# Altium footprint library logo.PCBLIB: 51 footprints (part 3 of 4)
Each footprint in its own frame and in the unit in brackets; x right, y up, seen from the top. Pads: shape width x height; smd on the part's side, far side on the other; paste and mask are expansions set on the pad; w line width, h text height; cw(c..) or ccw(c..) is an arc to the next point about the centre after c.
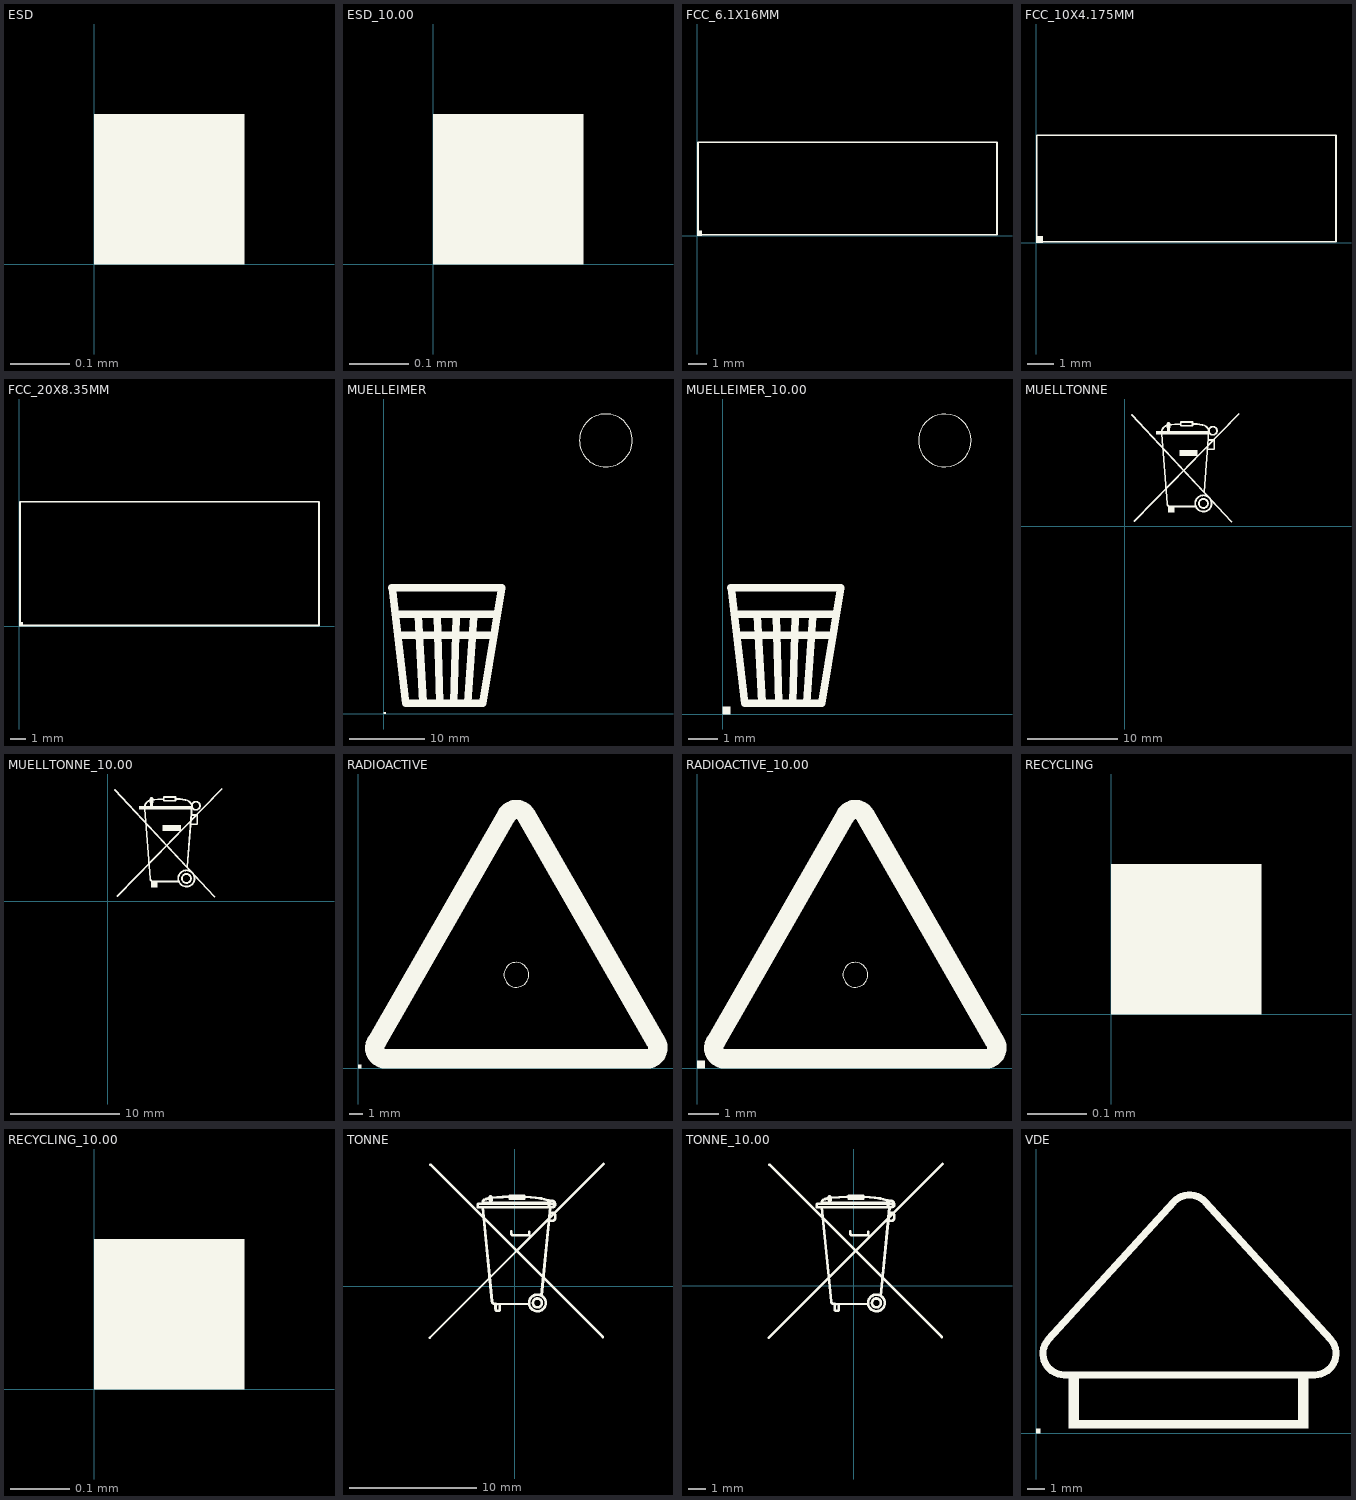
[diagram p2: the footprints below, top view; thin cyan lines are the x and y axes]

## ESD [mm]
Top Overlay:
  region: 0,0 0.254,0 0.254,0.254 0,0.254
  region: 0,0 0.254,0 0.254,0.254 0,0.254
  region: 0,0 0.254,0 0.254,0.254 0,0.254
  region: 0,0 0.254,0 0.254,0.254 0,0.254

## ESD_10.00 [mm]
Top Overlay:
  region: 0,0 0.254,0 0.254,0.254 0,0.254
  region: 0,0 0.254,0 0.254,0.254 0,0.254
  region: 0,0 0.254,0 0.254,0.254 0,0.254
  region: 0,0 0.254,0 0.254,0.254 0,0.254

## FCC_6.1X16MM [mm]
Top Overlay:
  region: 0,0 0.254,0 0.254,0.254 0,0.254
  region: 0,0 0.254,0 0.254,0.254 0,0.254
  region: 0,0 0.254,0 0.254,0.254 0,0.254
  lines w0.09: 0.052,0.045 15.955,0.045 15.955,4.959 0.052,4.959 0.052,0.045

## FCC_10X4.175MM [mm]
Top Overlay:
  region: 0,0 0.254,0 0.254,0.254 0,0.254
  region: 0,0 0.254,0 0.254,0.254 0,0.254
  region: 0,0 0.254,0 0.254,0.254 0,0.254
  lines w0.06: 0.035,0.03 11.558,0.03 11.558,4.139 0.035,4.139 0.035,0.03

## FCC_20X8.35MM [mm]
Top Overlay:
  region: 0,0 0.254,0 0.254,0.254 0,0.254
  region: 0,0 0.254,0 0.254,0.254 0,0.254
  region: 0,0 0.254,0 0.254,0.254 0,0.254
  lines w0.12: 0.07,0.06 19.94,0.06 19.94,8.278 0.07,8.278 0.07,0.06

## MUELLEIMER [mm]
Top Overlay:
  circle w0: c29.4,36.2 r3.5
  region: 0,0 0.254,0 0.254,0.254 0,0.254
  region: 0,0 0.254,0 0.254,0.254 0,0.254
  region: 0,0 0.254,0 0.254,0.254 0,0.254
  region: 0,0 0.254,0 0.254,0.254 0,0.254
  region: 0,0 0.254,0 0.254,0.254 0,0.254
  region: 0,0 0.254,0 0.254,0.254 0,0.254
  region: 0,0 0.254,0 0.254,0.254 0,0.254
  region: 0,0 0.254,0 0.254,0.254 0,0.254
  region: 0,0 0.254,0 0.254,0.254 0,0.254
  lines w1: 1.9,13.2 14.6,13.2 ; 2.2,10.4 14.2,10.4 ; 4.6,13 5.2,1.6 ; 7.1,13 7.4,1.5 ; 9.3,1.5 9.6,12.9 ; 11.1,1.5 11.9,12.9 ; 1.1,16.7 2.9,1.4 13.1,1.4 15.6,16.7 1.1,16.7

## MUELLEIMER_10.00 [mm]
Top Overlay:
  circle w0: c7.684,9.461 r0.915
  region: 0,0 0.254,0 0.254,0.254 0,0.254
  region: 0,0 0.254,0 0.254,0.254 0,0.254
  region: 0,0 0.254,0 0.254,0.254 0,0.254
  region: 0,0 0.254,0 0.254,0.254 0,0.254
  region: 0,0 0.254,0 0.254,0.254 0,0.254
  region: 0,0 0.254,0 0.254,0.254 0,0.254
  region: 0,0 0.254,0 0.254,0.254 0,0.254
  region: 0,0 0.254,0 0.254,0.254 0,0.254
  region: 0,0 0.254,0 0.254,0.254 0,0.254
  lines w0.261: 0.497,3.45 3.816,3.45 ; 0.575,2.718 3.711,2.718 ; 1.202,3.398 1.359,0.418 ; 1.856,3.398 1.934,0.392 ; 2.431,0.392 2.509,3.372 ; 2.901,0.392 3.11,3.372 ; 0.288,4.364 0.758,0.366 3.424,0.366 4.077,4.364 0.288,4.364

## MUELLTONNE [mm]
Top Overlay:
  circle w0.2: c8.7,2.525 r0.901
  circle w0.2: c9.75,10.55 r0.45
  circle w0.2: c8.7,2.525 r0.5
  rectangle: 3.45,10.125 9.325,10.55
  rectangle: 6.05,7.75 8.075,8.45
  rectangle: 4.8,1.525 5.5,2.2
  lines w0.2: 0.8,12.3 11.8,0.5 ; 1.1,0.6 12.6,12.4 ; 7.6,11.3 7.7,11.3 cw(c7.7,7.2) 8.6,11.2 cw(c8.379,10.219) 9.2,10.8 cw(c8.755,10.485) 9.3,10.5 8.8,3.8 ; 7.7,2.2 5,2.2 cw(c5,2.5) 4.7,2.5 4.1,10.2 4.1,10.4 cw(c4.85,10.4) 4.4,11 cw(c5.021,10.172) 4.9,11.2 cw(c6.778,-4.703) 6.2,11.3 ; 9.275,8.5 9.9,8.5 9.9,9.525 9.325,9.525 ; 6.2,11.3 6.2,11.5 7.5,11.5 7.5,11.1 6.2,11.1 6.2,11.3 ; 4.75,11.3 4.8,10.4 4.9,10.4 4.95,11.3 ccw(c4.85,11.311) 4.75,11.3

## MUELLTONNE_10.00 [mm]
Top Overlay:
  circle w0.166: c7.236,2.1 r0.75
  circle w0.166: c8.11,8.775 r0.374
  circle w0.166: c7.236,2.1 r0.416
  rectangle: 2.87,8.422 7.756,8.775
  rectangle: 5.032,6.446 6.717,7.028
  rectangle: 3.993,1.268 4.575,1.83
  lines w0.166: 0.665,10.231 9.815,0.416 ; 0.915,0.499 10.48,10.314 ; 6.322,9.399 6.405,9.399 cw(c6.405,5.988) 7.153,9.316 cw(c6.97,8.5) 7.653,8.983 cw(c7.283,8.722) 7.736,8.734 7.32,3.161 ; 6.405,1.83 4.159,1.83 cw(c4.159,2.08) 3.909,2.079 3.41,8.484 3.41,8.65 cw(c4.034,8.65) 3.66,9.15 cw(c4.177,8.461) 4.076,9.316 cw(c5.636,-3.912) 5.157,9.399 ; 7.715,7.07 8.235,7.07 8.235,7.923 7.756,7.923 ; 5.157,9.399 5.157,9.565 6.238,9.565 6.238,9.233 5.157,9.233 5.157,9.399 ; 3.951,9.399 3.993,8.65 4.076,8.65 4.117,9.399 ccw(c4.034,9.408) 3.951,9.399

## RADIOACTIVE [mm]
Top Overlay:
  circle w0: c11.5,6.8 r0.9
  region: 0,0 0.254,0 0.254,0.254 0,0.254
  region: 0,0 0.254,0 0.254,0.254 0,0.254
  region: 0,0 0.254,0 0.254,0.254 0,0.254
  lines w1.4: 1.4,2 ccw(c2,1.488) 2,0.7 21,0.7 ccw(c21,1.488) 21.6,2 12.2,18.4 ccw(c11.5,17.999) 10.8,18.4 1.4,2

## RADIOACTIVE_10.00 [mm]
Top Overlay:
  circle w0: c5.226,3.09 r0.409
  region: 0,0 0.254,0 0.254,0.254 0,0.254
  region: 0,0 0.254,0 0.254,0.254 0,0.254
  region: 0,0 0.254,0 0.254,0.254 0,0.254
  lines w0.636: 0.636,0.909 ccw(c0.909,0.676) 0.909,0.318 9.543,0.318 ccw(c9.543,0.676) 9.815,0.909 5.544,8.361 ccw(c5.226,8.179) 4.908,8.361 0.636,0.909

## RECYCLING [mm]
Top Overlay:
  region: 0,0 0.254,0 0.254,0.254 0,0.254
  region: 0,0 0.254,0 0.254,0.254 0,0.254
  region: 0,0 0.254,0 0.254,0.254 0,0.254
  region: 0,0 0.254,0 0.254,0.254 0,0.254
  region: 0,0 0.254,0 0.254,0.254 0,0.254
  region: 0,0 0.254,0 0.254,0.254 0,0.254

## RECYCLING_10.00 [mm]
Top Overlay:
  region: 0,0 0.254,0 0.254,0.254 0,0.254
  region: 0,0 0.254,0 0.254,0.254 0,0.254
  region: 0,0 0.254,0 0.254,0.254 0,0.254
  region: 0,0 0.254,0 0.254,0.254 0,0.254
  region: 0,0 0.254,0 0.254,0.254 0,0.254
  region: 0,0 0.254,0 0.254,0.254 0,0.254

## TONNE [mm]
Top Overlay:
  circle w0.2: c1.775,-1.325 r0.65
  circle w0.2: c1.775,-1.325 r0.35
  circle w0.2: c2.9,6.425 r0.25
  lines w0.2: -6.65,-4.05 6.95,9.55 ; -6.6,9.5 6.9,-4 ; -2.5,6.15 -1.775,-1.2 ccw(c-1.553,-1.178) -1.575,-1.4 cw(c-1.686,-2.535) -1.425,-1.425 1.1,-1.4 ; -2.5,6.5 cw(c-2.281,6.547) -2.375,6.75 cw(c-1.777,5.458) -2.075,6.85 cw(c-1.376,3.566) -1.775,6.9 cw(c-0.523,-3.479) -0.525,6.975 -0.4,6.975 ; -2.475,6.5 2.7,6.5 ; -1.925,6.55 -1.95,6.8 cw(c-1.201,6.875) -1.95,6.95 cw(c-1.887,6.944) -1.825,6.95 cw(c-3.685,6.762) -1.825,6.575 ; -1.5,-1.475 -1.5,-1.8 ccw(c-1.35,-1.8) -1.35,-1.95 -1.3,-1.95 ccw(c-1.3,-1.825) -1.175,-1.825 -1.175,-1.475 ; -0.275,4.275 -0.275,4.2 -0.275,4.125 ccw(c-0.125,4.125) -0.125,3.975 1.05,3.975 ccw(c1.05,4.075) 1.15,4.075 1.15,4.25 ; 0.775,6.975 1.25,6.95 cw(c0.93,0.847) 2.075,6.85 cw(c1.214,2.351) 2.575,6.725 cw(c2.421,6.23) 2.725,6.65 cw(c2.646,6.54) 2.775,6.5 ; 2.1,-0.75 2.8,6.15 ; 2.75,5.1 2.925,5.1 ccw(c2.925,5.35) 3.175,5.35 3.175,5.5 ccw(c2.945,5.5) 2.9,5.725 cw(c2.85,5.972) 2.8,5.725 ; -2.8,6.425 -2.775,6.425 ; -2.8,6.425 -2.825,6.425 ccw(c-2.825,6.35) -2.9,6.35 -2.9,6.3 -2.9,6.225 ccw(c-2.85,6.225) -2.85,6.175 -2.45,6.175 -0.3,6.175 1.75,6.175 2.95,6.175 ccw(c2.95,6.4) 3.175,6.4 3.175,6.425 -2.775,6.425 ; -2.8,6.425 -2.775,6.425 ; -0.4,6.85 0.75,6.85 0.75,7.05 -0.4,7.05 -0.4,6.85

## TONNE_10.00 [mm]
Top Overlay:
  circle w0.145: c1.285,-0.959 r0.47
  circle w0.145: c1.285,-0.959 r0.253
  circle w0.145: c2.099,4.651 r0.181
  lines w0.145: -4.814,-2.932 5.031,6.913 ; -4.777,6.877 4.995,-2.896 ; -1.81,4.452 -1.285,-0.869 ccw(c-1.124,-0.853) -1.14,-1.013 cw(c-1.221,-1.835) -1.031,-1.031 0.796,-1.013 ; -1.81,4.705 cw(c-1.651,4.739) -1.719,4.886 cw(c-1.287,3.951) -1.502,4.959 cw(c-0.993,2.581) -1.285,4.995 cw(c-0.382,-2.52) -0.38,5.049 -0.29,5.049 ; -1.792,4.705 1.955,4.705 ; -1.393,4.741 -1.411,4.923 cw(c-0.869,4.977) -1.411,5.031 cw(c-1.366,5.026) -1.321,5.031 cw(c-2.668,4.895) -1.321,4.759 ; -1.086,-1.068 -1.086,-1.303 ccw(c-0.977,-1.303) -0.977,-1.411 -0.941,-1.411 ccw(c-0.941,-1.321) -0.851,-1.321 -0.851,-1.068 ; -0.199,3.094 -0.199,3.04 -0.199,2.986 ccw(c-0.09,2.986) -0.09,2.877 0.76,2.877 ccw(c0.76,2.95) 0.833,2.95 0.833,3.076 ; 0.561,5.049 0.905,5.031 cw(c0.672,0.614) 1.502,4.959 cw(c0.881,1.703) 1.864,4.868 cw(c1.752,4.51) 1.973,4.814 cw(c1.915,4.734) 2.009,4.705 ; 1.52,-0.543 2.027,4.452 ; 1.991,3.692 2.117,3.692 ccw(c2.117,3.873) 2.298,3.873 2.298,3.981 ccw(c2.132,3.982) 2.099,4.144 cw(c2.063,4.323) 2.027,4.144 ; -2.027,4.651 -2.009,4.651 ; -2.027,4.651 -2.045,4.651 ccw(c-2.045,4.597) -2.099,4.597 -2.099,4.561 -2.099,4.506 ccw(c-2.063,4.506) -2.063,4.47 -1.773,4.47 -0.217,4.47 1.267,4.47 2.135,4.47 ccw(c2.135,4.633) 2.298,4.633 2.298,4.651 -2.009,4.651 ; -2.027,4.651 -2.009,4.651 ; -0.29,4.959 0.543,4.959 0.543,5.103 -0.29,5.103 -0.29,4.959

## VDE [mm]
Top Overlay:
  rectangle: 1.85,0.25 2.45,3.15
  rectangle: 2.4,0.25 14.925,0.75
  rectangle: 14.85,0.25 15.45,3.15
  region: 0,0 0.254,0 0.254,0.254 0,0.254
  region: 0,0 0.254,0 0.254,0.254 0,0.254
  region: 0,0 0.254,0 0.254,0.254 0,0.254
  lines w0.4: 0.7,5.3 7.8,13.1 cw(c8.7,12.281) 9.6,13.1 16.7,5.3 cw(c15.8,4.502) 15.8,3.3 1.6,3.3 cw(c1.6,4.502) 0.7,5.3